# EAGLE library part PAC1710 (library bschulz)
PAC1710 - High Side Current/Power Monitor with I2C Interface Characteristics: Vcc: 3V ~ 5.5V Iq: 5uA Common Mode Range: 0V ~ 40V Operating Temperature: -40°C to 85°C Digikey: PAC1720-1-AIA-CT-ND <https://www.digikey.com/product-detail/en/microchip-technology/PAC1710-1-AIA-TR/PAC1710-1-AIA-CT-ND/4490171>
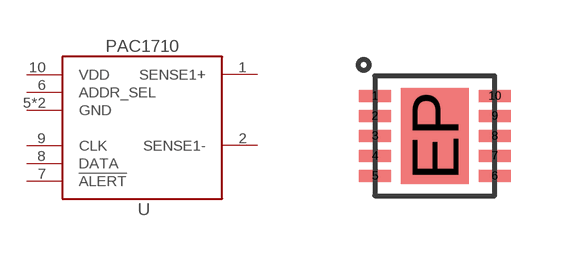
[diagram p116: symbol with the pads of VDFN-10; footprint VDFN-10]

Designator prefix U

## PAC1710 (DIGIKEY: PAC1710-1-AIA-CT-ND; MF: Microchip; MPN: PAC1710-1-AIA-TR)  [VDFN-10]
1  SENSE1+  in
2  SENSE1-  in
5  GND  pwr
6  ADDR_SEL  in
7  !ALERT  out
8  DATA
9  CLK  in
10  VDD  pwr
EP  GND  pwr

## Footprint VDFN-10 (pad centres in mm)
10 pin, 3x3mm Very Thin Dual Flat, No Lead Package (9Q) Based on PAC1710/20 <http://ww1.microchip.com/downloads/en/DeviceDoc/20005386B.pdf>
smd 0.8 x 0.3: 1 -1.5,1; 2 -1.5,0.5; 3 -1.5,0; 4 -1.5,-0.5; 5 -1.5,-1; 6 1.5,-1; 7 1.5,-0.5; 8 1.5,0; 9 1.5,0.5; 10 1.5,1
smd 1.7 x 2.4: EP 0,0